# Altium footprint library HJR-4102-L-05V.PcbLib: 1 footprints
Each footprint in its own frame and in the unit in brackets; x right, y up, seen from the top. Pads: shape width x height; smd on the part's side, far side on the other; paste and mask are expansions set on the pad; w line width, h text height; cw(c..) or ccw(c..) is an arc to the next point about the centre after c.
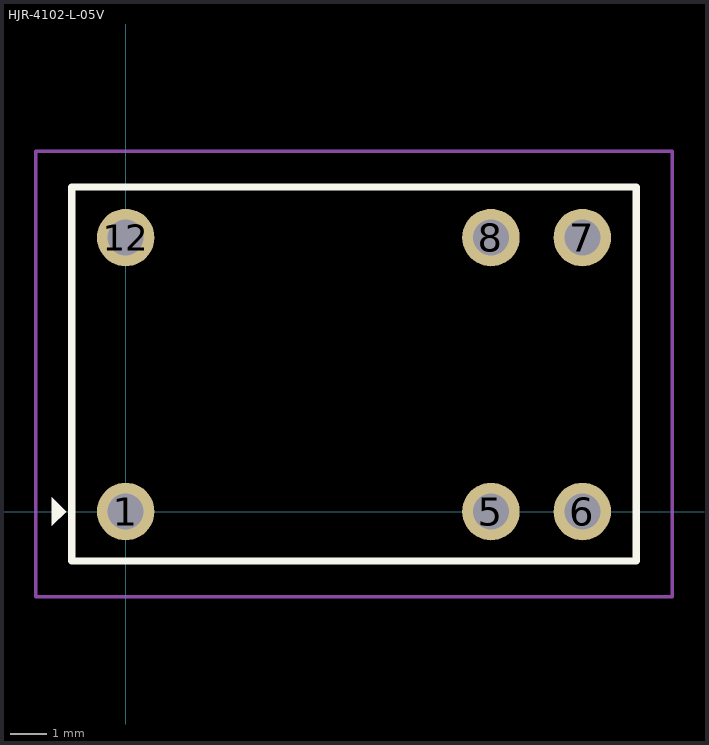
[diagram p0: the footprint, top view; thin cyan lines are the x and y axes]

## HJR-4102-L-05V [mm]
height 1.8
pads (6):
  round 1.6 hole 1: 1(0,0) 5(10.16,0) 6(12.7,0) 7(12.7,7.62) 8(10.16,7.62) 12(0,7.62)
Top Overlay:
  region: -2.05,-0.4 -2.05,0.4 -1.65,0
  lines w0.2: -1.5,-1.375 -1.5,9.025 14.2,9.025 14.2,-1.375 -1.5,-1.375
Top Courtyard:
  lines w0.1: -2.5,-2.375 -1.5,-2.375 15.2,-2.375 15.2,10.025 -2.5,10.025 -2.5,-2.375
3D body "HJR-4102-L-05V--3DModel-STEP-56544.STEP": height 11.2, standoff -3.9, extent -1.501,-1.375 14.199,9.025